# Altium schematic symbol library 47053-1000.SchLib: 1 symbol
Pins are listed as number, name and electrical type; pins without a type are passive.

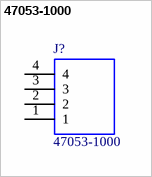
[diagram p0: symbol 47053-1000]

## 47053-1000
designator J?
MOLEX - 47053-1000 - HEADER, 4POS, 1ROW, 2.54MM; Geometry.Height: 8mm; Manufacturer_Name: Molex; Manufacturer_Part_Number: 47053-1000; Mouser Part Number: 538-47053-1000; Mouser Price/Stock: https://www.mouser.co.uk/ProductDetail/Molex/47053-1000?qs=ph4zPCVRuvqoDX7hrEhxNA%3D%3D; Arrow Part Number: *; Arrow Price/Stock: *; Datasheet Link: http://www.molex.com/pdm_docs/sd/470531000_sd.pdf
footprint 470531000
pins: 1, 2, 3, 4